# Altium schematic symbol library EVP-ASKC1A.SchLib: 1 symbol
Pins are listed as number, name and electrical type; pins without a type are passive.

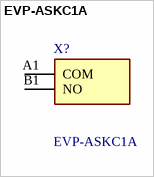
[diagram p0: symbol EVP-ASKC1A]

## EVP-ASKC1A
designator X?
Tactile Switches 3N 6x6.1x5mm 1.3mm Travel Black; Manufacturer_Name: Panasonic; Geometry.Height: 5.2mm; Mouser Part Number: 667-EVP-ASKC1A; Mouser Price/Stock: https://www.mouser.co.uk/ProductDetail/Panasonic/EVP-ASKC1A?qs=gTYE2QTfZfQol0eOIUHCMQ%3D%3D; Manufacturer_Part_Number: EVP-ASKC1A; Datasheet Link: https://industrial.panasonic.com/ac/cdn/e/control/switch/light-touch/catalog/sw_lt_eng_6s_long_2t.pdf
footprint EVPASKC1A
pins: A1 COM, B1 NO